# EAGLE library part 62402821722 (library Wurth_Connectors_WR-WTB)
WR-WTB 2.00 mm Male Dual Row Horizontal Shrouded Header w. positive locking KIND PROPERTIES: Pitch:2 mm Gender:Male MATERIAL PROPERTIES: Insulator Material :PBT Insulator Flammability Rating:UL94 V-0 Color:White Contact Material:Copper Alloy Contact Plating:Tin Contact Type:Stamped GENERAL INFORMATION Operating Temperature:-25 up to +85 °C Compliance: RoHS Working Voltage:250V (AC) Withstanding Voltage:1000V (AC) Contact Resistance:20 mΩ RISO:1000 MΩ CERTIFICATION UL Approval:E323964 PACKAGING PROPERTIES Packaging:Tube <https://katalog.we-online.com/media/images/v2/o33359v209%20Family_WR-WTB_6240xx21722.jpg> Details see: https://katalog.we-online.com/en/em/WTB_2_00_MALE_DUAL_ROW_HORIZONTAL_SHROUDED_HEADER_W_POSITIVE_LOCKING_6240XX21722 Updated by Yingchun,Shan 2019-11-08 2019 (C) Würth Elektronik
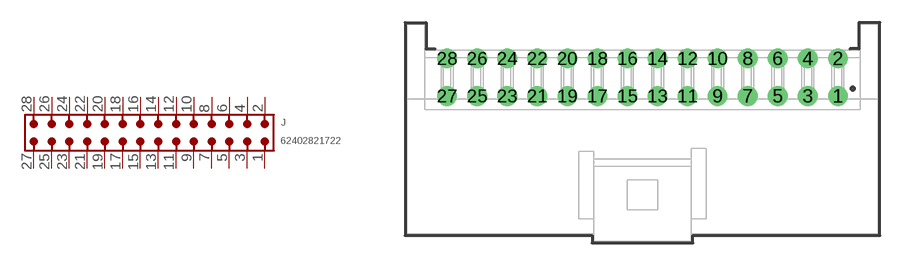
[diagram p125: symbol with the pads of 62402821722; footprint 62402821722]

Designator prefix J

## 62402821722 (CONTACT-RESISTANCE: 20mOhm; DATASHEET-URL: https://www.we-online.com/redexpert/spec/62402821722?ae; GENDER: Male; IR: 3A; L: 31.4mm; MOUNT: THT; PACKAGING: Tube; PART-NUMBER: 62402821722; PCB-CABLE-PANEL: PCB; PINS: 28; PITCH: 2mm; TYPE: Horizontal; VALUE: 62402821722; WORKING-VOLTAGE: 250V(AC))  [62402821722]
1  1  pas
2  2  pas
3  3  pas
4  4  pas
5  5  pas
6  6  pas
7  7  pas
8  8  pas
9  9  pas
10  10  pas
11  11  pas
12  12  pas
13  13  pas
14  14  pas
15  15  pas
16  16  pas
17  17  pas
18  18  pas
19  19  pas
20  20  pas
21  21  pas
22  22  pas
23  23  pas
24  24  pas
25  25  pas
26  26  pas
27  27  pas
28  28  pas

## Footprint 62402821722 (pad centres in mm)
WR-WTB 2.00 mm Male Dual Row Horizontal Shrouded Header w. positive locking, 28 pins
drill 0.8: 1 13,2.2; 2 13,4.7; 3 11,2.2; 4 11,4.7; 5 9,2.2; 6 9,4.7; 7 7,2.2; 8 7,4.7; 9 5,2.2; 10 5,4.7; 11 3,2.2; 12 3,4.7; 13 1,2.2; 14 1,4.7; 15 -1,2.2; 16 -1,4.7; 17 -3,2.2; 18 -3,4.7; 19 -5,2.2; 20 -5,4.7; 21 -7,2.2; 22 -7,4.7; 23 -9,2.2; 24 -9,4.7; 25 -11,2.2; 26 -11,4.7; 27 -13,2.2; 28 -13,4.7